# EAGLE library part IL300-X007 (library IL300-X007)
SMD-8 CPL LINEAR -e3 Source: Datasheet <https://www.vishay.com/docs/83622/il300.pdf>
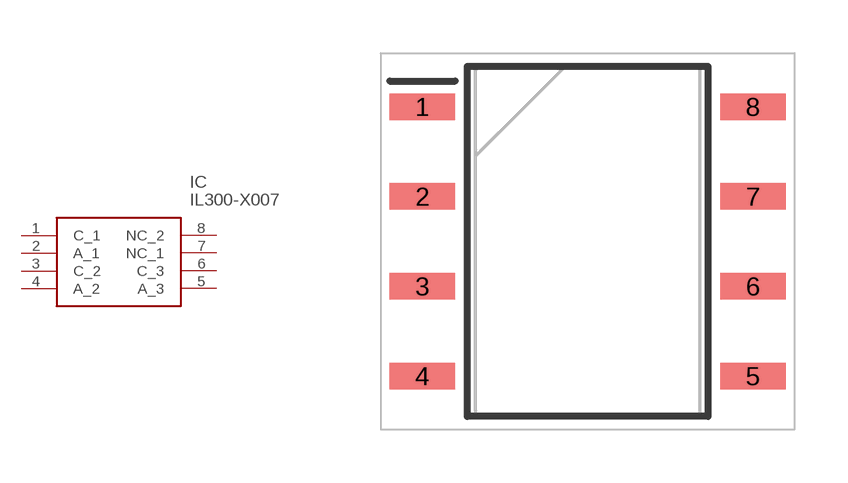
[diagram p0: symbol with the pads of SOP254P1030X460-8N; footprint SOP254P1030X460-8N]

Designator prefix IC

## IL300-X007 (Description: SMD-8 CPL LINEAR -e3; Height: 4.6mm; Manufacturer_Name: Vishay; Manufacturer_Part_Number: IL300-X007; Mouser_Part_Number: 782-IL300-X007; Mouser_Price-Stock: https://www.mouser.com/Search/Refine.aspx?Keyword=782-IL300-X007)  [SOP254P1030X460-8N]
1  C_1
2  A_1
3  C_2
4  A_2
5  A_3
6  C_3
7  NC_1
8  NC_2

## Footprint SOP254P1030X460-8N (pad centres in mm)
IL300-X007
smd 1.85 x 0.75: 1 -4.675,3.81; 2 -4.675,1.27; 3 -4.675,-1.27; 4 -4.675,-3.81; 5 4.675,-3.81; 6 4.675,-1.27; 7 4.675,1.27; 8 4.675,3.81